# Altium schematic symbol library 3.3 - STC系列单片机.SchLib: 92 symbols (part 2 of 2)
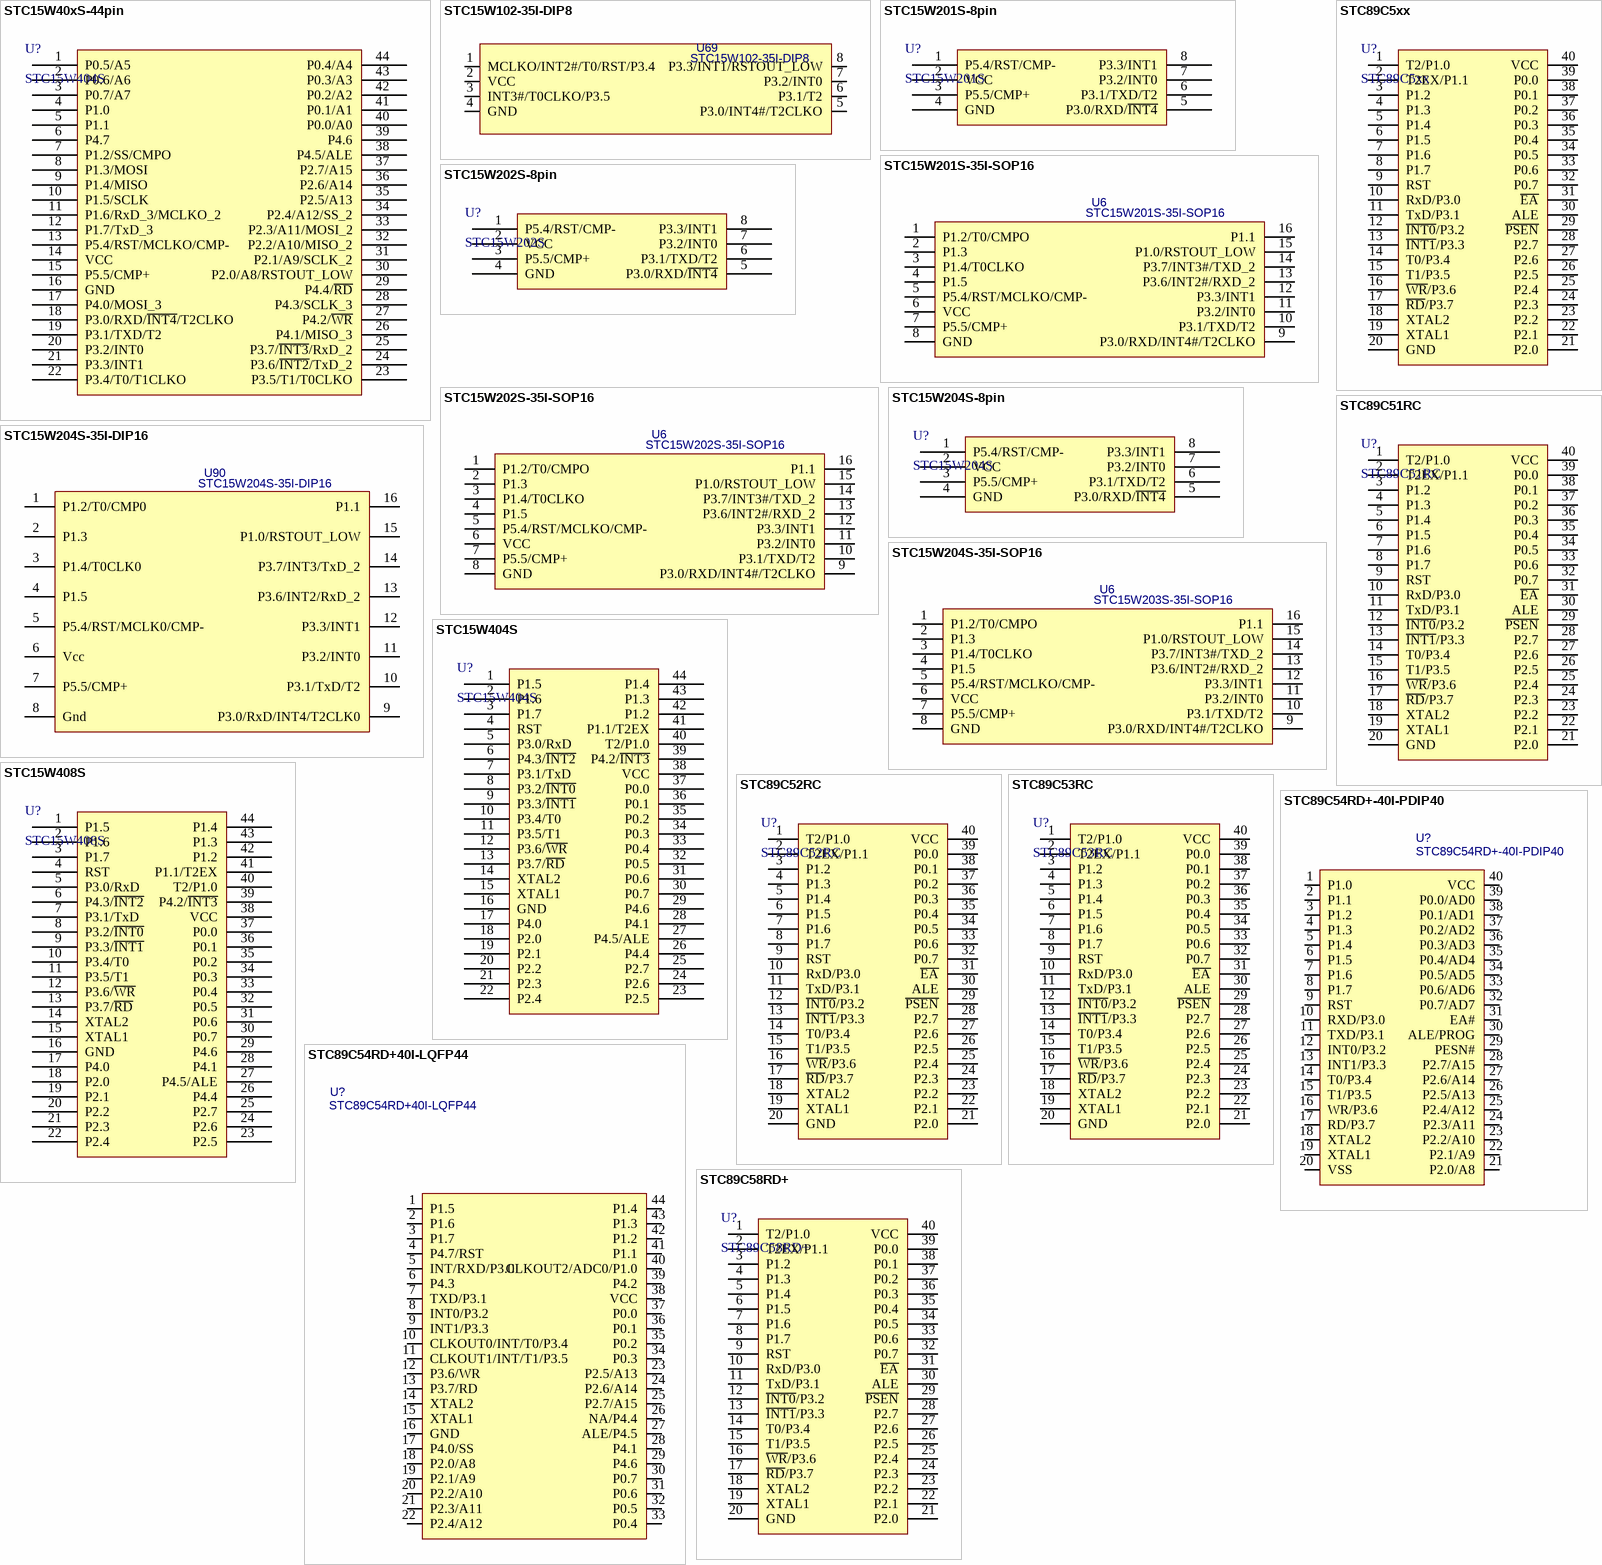
[diagram p7: symbols STC15W40xS-44pin to STC89C58RD+]

## STC89C52RC
designator U?
STC单片机; 其他店铺购入均为盗版封装库，无更新权益: 最新版本发布https://shop463601444.taobao.com; BOM名称: STC单片机
footprint DIP40-600 (52*15.2*4mm(长宽高))
pins: 1 T2/P1.0, 2 T2EX/P1.1, 3 P1.2, 4 P1.3, 5 P1.4, 6 P1.5, 7 P1.6, 8 P1.7, 9 RST, 10 RxD/P3.0, 11 TxD/P3.1, 12 ~{INT0}/P3.2, 13 ~{INT1}/P3.3, 14 T0/P3.4, 15 T1/P3.5, 16 ~{WR}/P3.6, 17 ~{RD}/P3.7, 18 XTAL2, 19 XTAL1, 20 GND, 21 P2.0, 22 P2.1, 23 P2.2, 24 P2.3, 25 P2.4, 26 P2.5, 27 P2.6, 28 P2.7, 29 ~{PSEN}, 30 ALE, 31 ~{EA}, 32 P0.7, 33 P0.6, 34 P0.5, 35 P0.4, 36 P0.3, 37 P0.2, 38 P0.1, 39 P0.0, 40 VCC

## STC89C53RC
designator U?
STC单片机; 其他店铺购入均为盗版封装库，无更新权益: 最新版本发布https://shop463601444.taobao.com; BOM名称: STC单片机
footprint DIP40-600 (52*15.2*4mm(长宽高))
pins: 1 T2/P1.0, 2 T2EX/P1.1, 3 P1.2, 4 P1.3, 5 P1.4, 6 P1.5, 7 P1.6, 8 P1.7, 9 RST, 10 RxD/P3.0, 11 TxD/P3.1, 12 ~{INT0}/P3.2, 13 ~{INT1}/P3.3, 14 T0/P3.4, 15 T1/P3.5, 16 ~{WR}/P3.6, 17 ~{RD}/P3.7, 18 XTAL2, 19 XTAL1, 20 GND, 21 P2.0, 22 P2.1, 23 P2.2, 24 P2.3, 25 P2.4, 26 P2.5, 27 P2.6, 28 P2.7, 29 ~{PSEN}, 30 ALE, 31 ~{EA}, 32 P0.7, 33 P0.6, 34 P0.5, 35 P0.4, 36 P0.3, 37 P0.2, 38 P0.1, 39 P0.0, 40 VCC

## STC89C54RD+40I-LQFP44
designator U?
STC单片机; 其他店铺购入均为盗版封装库，无更新权益: 最新版本发布https://shop463601444.taobao.com; BOM名称: STC单片机
footprint LQFP44_P80 (44脚，体宽10x10mm，脚距0.8mm)
pins: 1 P1.5, 2 P1.6, 3 P1.7, 4 P4.7/RST, 5 INT/RXD/P3.0, 6 P4.3, 7 TXD/P3.1, 8 INT0/P3.2, 9 INT1/P3.3, 10 CLKOUT0/INT/T0/P3.4, 11 CLKOUT1/INT/T1/P3.5, 12 P3.6/WR, 13 P3.7/RD, 14 XTAL2, 15 XTAL1, 16 GND, 17 P4.0/SS, 18 P2.0/A8, 19 P2.1/A9, 20 P2.2/A10, 21 P2.3/A11, 22 P2.4/A12, 23 P2.5/A13, 24 P2.6/A14, 25 P2.7/A15, 26 NA/P4.4, 27 ALE/P4.5, 28 P4.1, 29 P4.6, 30 P0.7, 31 P0.6, 32 P0.5, 33 P0.4, 34 P0.3, 35 P0.2, 36 P0.1, 37 P0.0, 38 VCC, 39 P4.2, 40 CLKOUT2/ADC0/P1.0, 41 P1.1, 42 P1.2, 43 P1.3, 44 P1.4

## STC89C54RD+-40I-PDIP40
designator U?
STC单片机; 其他店铺购入均为盗版封装库，无更新权益: 最新版本发布https://shop463601444.taobao.com; BOM名称: STC单片机
footprint DIP-40 (52*15.2*4mm(长宽高)                联系卖家 免费查找封装)
pins: 1 P1.0, 2 P1.1, 3 P1.2, 4 P1.3, 5 P1.4, 6 P1.5, 7 P1.6, 8 P1.7, 9 RST, 10 RXD/P3.0, 11 TXD/P3.1, 12 INT0/P3.2, 13 INT1/P3.3, 14 T0/P3.4, 15 T1/P3.5, 16 WR/P3.6, 17 RD/P3.7, 18 XTAL2, 19 XTAL1, 20 VSS, 21 P2.0/A8, 22 P2.1/A9, 23 P2.2/A10, 24 P2.3/A11, 25 P2.4/A12, 26 P2.5/A13, 27 P2.6/A14, 28 P2.7/A15, 29 PESN#, 30 ALE/PROG, 31 EA#, 32 P0.7/AD7, 33 P0.6/AD6, 34 P0.5/AD5, 35 P0.4/AD4, 36 P0.3/AD3, 37 P0.2/AD2, 38 P0.1/AD1, 39 P0.0/AD0, 40 VCC

## STC89C58RD+
designator U?
STC单片机; 其他店铺购入均为盗版封装库，无更新权益: 最新版本发布https://shop463601444.taobao.com; BOM名称: STC单片机
footprint DIP40-600 (52*15.2*4mm(长宽高))
pins: 1 T2/P1.0, 2 T2EX/P1.1, 3 P1.2, 4 P1.3, 5 P1.4, 6 P1.5, 7 P1.6, 8 P1.7, 9 RST, 10 RxD/P3.0, 11 TxD/P3.1, 12 ~{INT0}/P3.2, 13 ~{INT1}/P3.3, 14 T0/P3.4, 15 T1/P3.5, 16 ~{WR}/P3.6, 17 ~{RD}/P3.7, 18 XTAL2, 19 XTAL1, 20 GND, 21 P2.0, 22 P2.1, 23 P2.2, 24 P2.3, 25 P2.4, 26 P2.5, 27 P2.6, 28 P2.7, 29 ~{PSEN}, 30 ALE, 31 ~{EA}, 32 P0.7, 33 P0.6, 34 P0.5, 35 P0.4, 36 P0.3, 37 P0.2, 38 P0.1, 39 P0.0, 40 VCC

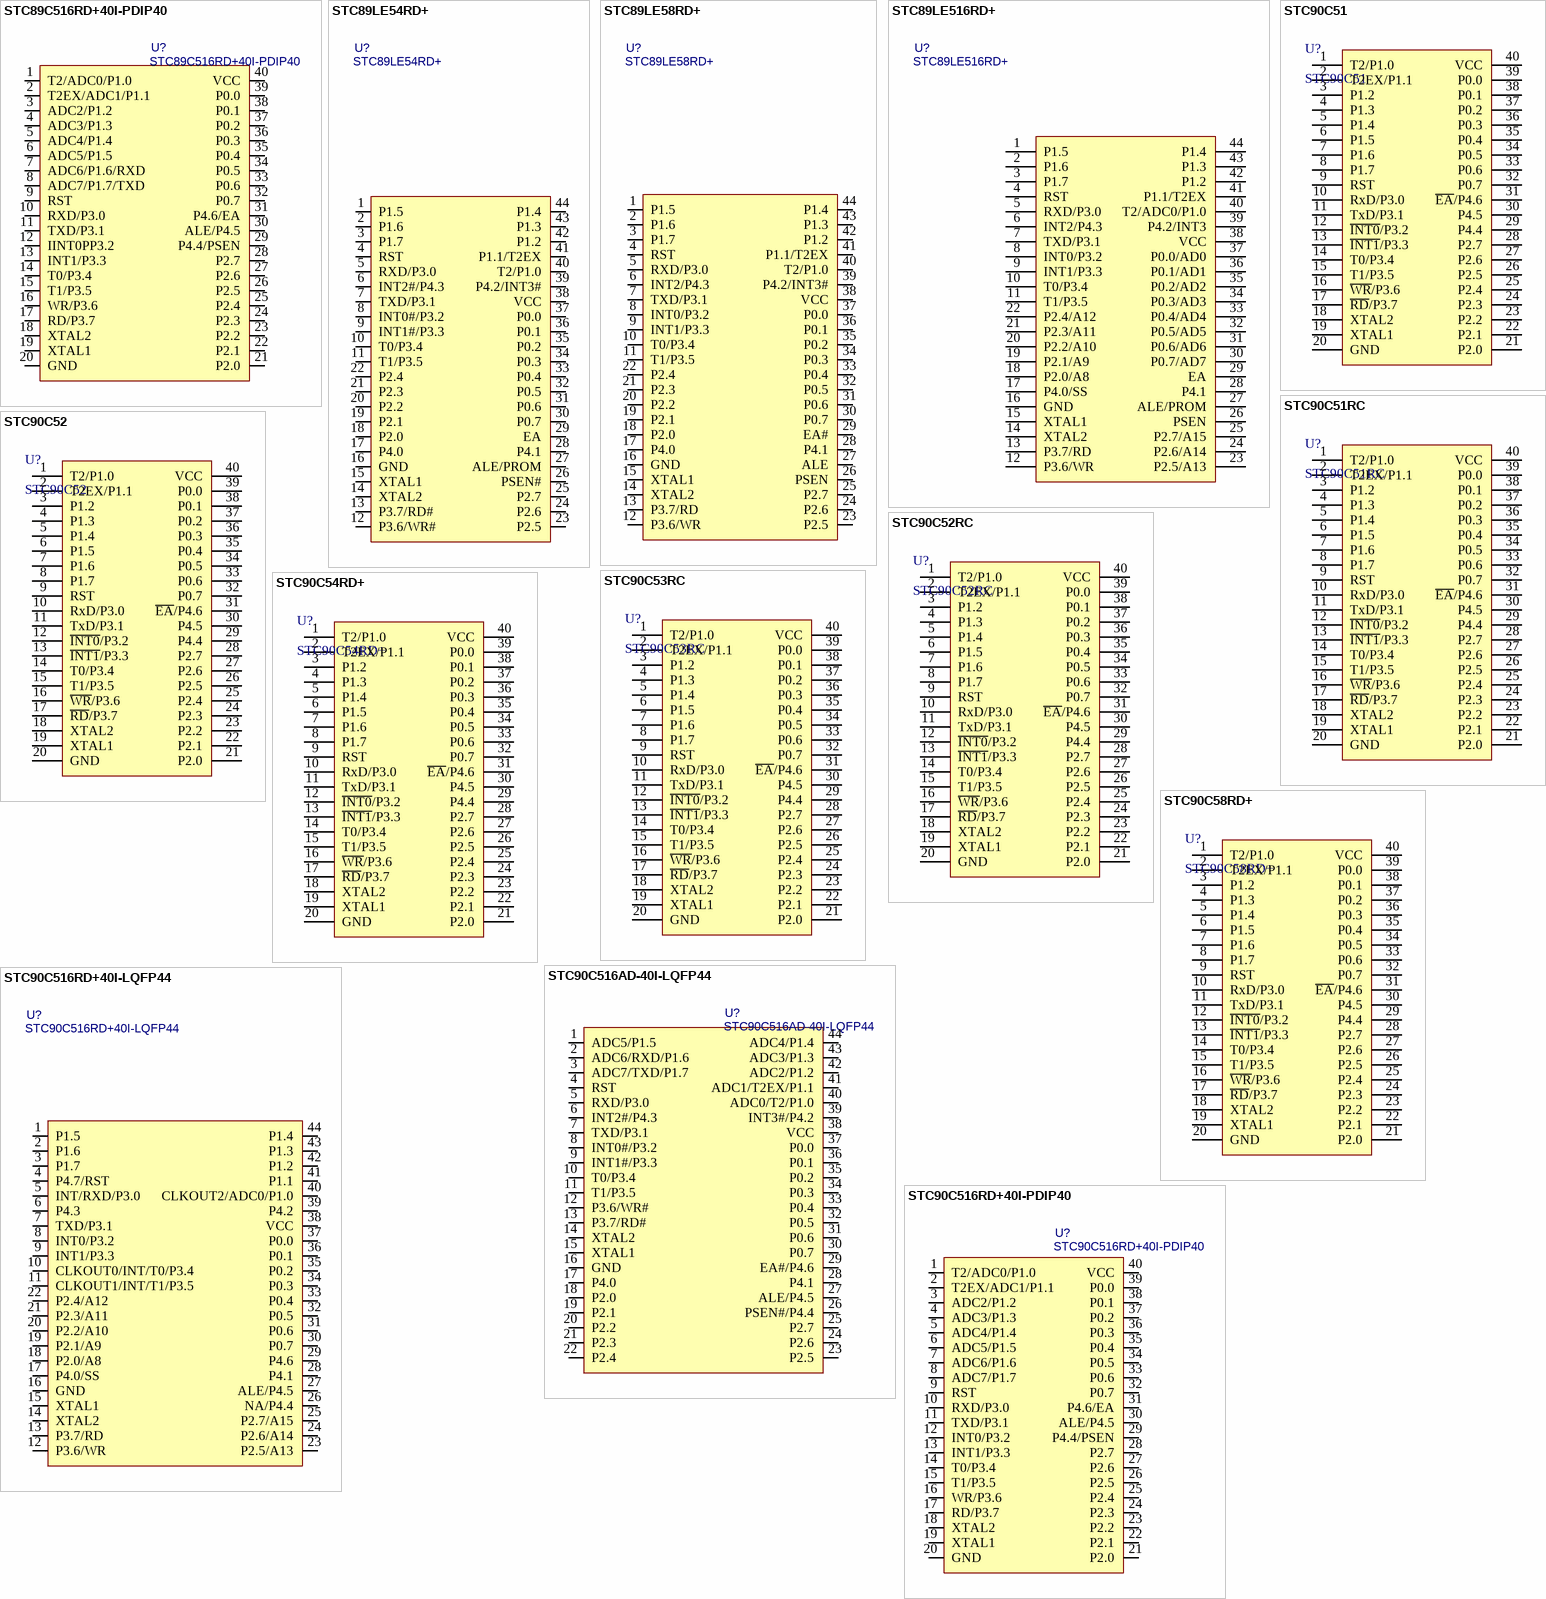
[diagram p6: symbols STC89C516RD+40I-PDIP40 to STC90C516RD+40I-PDIP40]

## STC89C516RD+40I-PDIP40
designator U?
STC单片机; 其他店铺购入均为盗版封装库，无更新权益: 最新版本发布https://shop463601444.taobao.com; BOM名称: STC单片机
footprint DIP-40 (52*15.2*4mm(长宽高)                联系卖家 免费查找封装)
pins: 1 T2/ADC0/P1.0, 2 T2EX/ADC1/P1.1, 3 ADC2/P1.2, 4 ADC3/P1.3, 5 ADC4/P1.4, 6 ADC5/P1.5, 7 ADC6/P1.6/RXD, 8 ADC7/P1.7/TXD, 9 RST, 10 RXD/P3.0, 11 TXD/P3.1, 12 IINT0PP3.2, 13 INT1/P3.3, 14 T0/P3.4, 15 T1/P3.5, 16 WR/P3.6, 17 RD/P3.7, 18 XTAL2, 19 XTAL1, 20 GND, 21 P2.0, 22 P2.1, 23 P2.2, 24 P2.3, 25 P2.4, 26 P2.5, 27 P2.6, 28 P2.7, 29 P4.4/PSEN, 30 ALE/P4.5, 31 P4.6/EA, 32 P0.7, 33 P0.6, 34 P0.5, 35 P0.4, 36 P0.3, 37 P0.2, 38 P0.1, 39 P0.0, 40 VCC

## STC89LE54RD+
designator U?
STC单片机; 其他店铺购入均为盗版封装库，无更新权益: 最新版本发布https://shop463601444.taobao.com; BOM名称: STC单片机
footprint LQFP44_P80 (44脚，体宽10x10mm，脚距0.8mm)
pins: 1 P1.5, 2 P1.6, 3 P1.7, 4 RST, 5 RXD/P3.0, 6 INT2#/P4.3, 7 TXD/P3.1, 8 INT0#/P3.2, 9 INT1#/P3.3, 10 T0/P3.4, 11 T1/P3.5, 12 P3.6/WR#, 13 P3.7/RD#, 14 XTAL2, 15 XTAL1, 16 GND, 17 P4.0, 18 P2.0, 19 P2.1, 20 P2.2, 21 P2.3, 22 P2.4, 23 P2.5, 24 P2.6, 25 P2.7, 26 PSEN#, 27 ALE/PROM, 28 P4.1, 29 EA, 30 P0.7, 31 P0.6, 32 P0.5, 33 P0.4, 34 P0.3, 35 P0.2, 36 P0.1, 37 P0.0, 38 VCC, 39 P4.2/INT3#, 40 T2/P1.0, 41 P1.1/T2EX, 42 P1.2, 43 P1.3, 44 P1.4

## STC89LE58RD+
designator U?
STC单片机; 其他店铺购入均为盗版封装库，无更新权益: 最新版本发布https://shop463601444.taobao.com; BOM名称: STC单片机
footprint LQFP44_P80 (44脚，体宽10x10mm，脚距0.8mm)
pins: 1 P1.5, 2 P1.6, 3 P1.7, 4 RST, 5 RXD/P3.0, 6 INT2/P4.3, 7 TXD/P3.1, 8 INT0/P3.2, 9 INT1/P3.3, 10 T0/P3.4, 11 T1/P3.5, 12 P3.6/WR, 13 P3.7/RD, 14 XTAL2, 15 XTAL1, 16 GND, 17 P4.0, 18 P2.0, 19 P2.1, 20 P2.2, 21 P2.3, 22 P2.4, 23 P2.5, 24 P2.6, 25 P2.7, 26 PSEN, 27 ALE, 28 P4.1, 29 EA#, 30 P0.7, 31 P0.6, 32 P0.5, 33 P0.4, 34 P0.3, 35 P0.2, 36 P0.1, 37 P0.0, 38 VCC, 39 P4.2/INT3#, 40 T2/P1.0, 41 P1.1/T2EX, 42 P1.2, 43 P1.3, 44 P1.4

## STC89LE516RD+
designator U?
STC单片机; 其他店铺购入均为盗版封装库，无更新权益: 最新版本发布https://shop463601444.taobao.com; BOM名称: STC单片机
footprint LQFP44_P80 (44脚，体宽10x10mm，脚距0.8mm)
pins: 1 P1.5, 2 P1.6, 3 P1.7, 4 RST, 5 RXD/P3.0, 6 INT2/P4.3, 7 TXD/P3.1, 8 INT0/P3.2, 9 INT1/P3.3, 10 T0/P3.4, 11 T1/P3.5, 12 P3.6/WR, 13 P3.7/RD, 14 XTAL2, 15 XTAL1, 16 GND, 17 P4.0/SS, 18 P2.0/A8, 19 P2.1/A9, 20 P2.2/A10, 21 P2.3/A11, 22 P2.4/A12, 23 P2.5/A13, 24 P2.6/A14, 25 P2.7/A15, 26 PSEN, 27 ALE/PROM, 28 P4.1, 29 EA, 30 P0.7/AD7, 31 P0.6/AD6, 32 P0.5/AD5, 33 P0.4/AD4, 34 P0.3/AD3, 35 P0.2/AD2, 36 P0.1/AD1, 37 P0.0/AD0, 38 VCC, 39 P4.2/INT3, 40 T2/ADC0/P1.0, 41 P1.1/T2EX, 42 P1.2, 43 P1.3, 44 P1.4

## STC90C51
designator U?
STC单片机; 其他店铺购入均为盗版封装库，无更新权益: 最新版本发布https://shop463601444.taobao.com; BOM名称: STC单片机
footprint DIP40-600 (52*15.2*4mm(长宽高))
pins: 1 T2/P1.0, 2 T2EX/P1.1, 3 P1.2, 4 P1.3, 5 P1.4, 6 P1.5, 7 P1.6, 8 P1.7, 9 RST, 10 RxD/P3.0, 11 TxD/P3.1, 12 ~{INT0}/P3.2, 13 ~{INT1}/P3.3, 14 T0/P3.4, 15 T1/P3.5, 16 ~{WR}/P3.6, 17 ~{RD}/P3.7, 18 XTAL2, 19 XTAL1, 20 GND, 21 P2.0, 22 P2.1, 23 P2.2, 24 P2.3, 25 P2.4, 26 P2.5, 27 P2.6, 28 P2.7, 29 P4.4, 30 P4.5, 31 ~{EA}/P4.6, 32 P0.7, 33 P0.6, 34 P0.5, 35 P0.4, 36 P0.3, 37 P0.2, 38 P0.1, 39 P0.0, 40 VCC

## STC90C51RC
designator U?
STC单片机; 其他店铺购入均为盗版封装库，无更新权益: 最新版本发布https://shop463601444.taobao.com; BOM名称: STC单片机
footprint DIP40-600 (52*15.2*4mm(长宽高))
pins: 1 T2/P1.0, 2 T2EX/P1.1, 3 P1.2, 4 P1.3, 5 P1.4, 6 P1.5, 7 P1.6, 8 P1.7, 9 RST, 10 RxD/P3.0, 11 TxD/P3.1, 12 ~{INT0}/P3.2, 13 ~{INT1}/P3.3, 14 T0/P3.4, 15 T1/P3.5, 16 ~{WR}/P3.6, 17 ~{RD}/P3.7, 18 XTAL2, 19 XTAL1, 20 GND, 21 P2.0, 22 P2.1, 23 P2.2, 24 P2.3, 25 P2.4, 26 P2.5, 27 P2.6, 28 P2.7, 29 P4.4, 30 P4.5, 31 ~{EA}/P4.6, 32 P0.7, 33 P0.6, 34 P0.5, 35 P0.4, 36 P0.3, 37 P0.2, 38 P0.1, 39 P0.0, 40 VCC

## STC90C52
designator U?
STC单片机; 其他店铺购入均为盗版封装库，无更新权益: 最新版本发布https://shop463601444.taobao.com; BOM名称: STC单片机
footprint DIP40-600 (52*15.2*4mm(长宽高))
pins: 1 T2/P1.0, 2 T2EX/P1.1, 3 P1.2, 4 P1.3, 5 P1.4, 6 P1.5, 7 P1.6, 8 P1.7, 9 RST, 10 RxD/P3.0, 11 TxD/P3.1, 12 ~{INT0}/P3.2, 13 ~{INT1}/P3.3, 14 T0/P3.4, 15 T1/P3.5, 16 ~{WR}/P3.6, 17 ~{RD}/P3.7, 18 XTAL2, 19 XTAL1, 20 GND, 21 P2.0, 22 P2.1, 23 P2.2, 24 P2.3, 25 P2.4, 26 P2.5, 27 P2.6, 28 P2.7, 29 P4.4, 30 P4.5, 31 ~{EA}/P4.6, 32 P0.7, 33 P0.6, 34 P0.5, 35 P0.4, 36 P0.3, 37 P0.2, 38 P0.1, 39 P0.0, 40 VCC

## STC90C52RC
designator U?
STC单片机; 其他店铺购入均为盗版封装库，无更新权益: 最新版本发布https://shop463601444.taobao.com; BOM名称: STC单片机
footprint DIP40-600 (52*15.2*4mm(长宽高))
pins: 1 T2/P1.0, 2 T2EX/P1.1, 3 P1.2, 4 P1.3, 5 P1.4, 6 P1.5, 7 P1.6, 8 P1.7, 9 RST, 10 RxD/P3.0, 11 TxD/P3.1, 12 ~{INT0}/P3.2, 13 ~{INT1}/P3.3, 14 T0/P3.4, 15 T1/P3.5, 16 ~{WR}/P3.6, 17 ~{RD}/P3.7, 18 XTAL2, 19 XTAL1, 20 GND, 21 P2.0, 22 P2.1, 23 P2.2, 24 P2.3, 25 P2.4, 26 P2.5, 27 P2.6, 28 P2.7, 29 P4.4, 30 P4.5, 31 ~{EA}/P4.6, 32 P0.7, 33 P0.6, 34 P0.5, 35 P0.4, 36 P0.3, 37 P0.2, 38 P0.1, 39 P0.0, 40 VCC

## STC90C53RC
designator U?
STC单片机; 其他店铺购入均为盗版封装库，无更新权益: 最新版本发布https://shop463601444.taobao.com; BOM名称: STC单片机
footprint DIP40-600 (52*15.2*4mm(长宽高))
pins: 1 T2/P1.0, 2 T2EX/P1.1, 3 P1.2, 4 P1.3, 5 P1.4, 6 P1.5, 7 P1.6, 8 P1.7, 9 RST, 10 RxD/P3.0, 11 TxD/P3.1, 12 ~{INT0}/P3.2, 13 ~{INT1}/P3.3, 14 T0/P3.4, 15 T1/P3.5, 16 ~{WR}/P3.6, 17 ~{RD}/P3.7, 18 XTAL2, 19 XTAL1, 20 GND, 21 P2.0, 22 P2.1, 23 P2.2, 24 P2.3, 25 P2.4, 26 P2.5, 27 P2.6, 28 P2.7, 29 P4.4, 30 P4.5, 31 ~{EA}/P4.6, 32 P0.7, 33 P0.6, 34 P0.5, 35 P0.4, 36 P0.3, 37 P0.2, 38 P0.1, 39 P0.0, 40 VCC

## STC90C54RD+
designator U?
STC单片机; 其他店铺购入均为盗版封装库，无更新权益: 最新版本发布https://shop463601444.taobao.com; BOM名称: STC单片机
footprint DIP40-600 (52*15.2*4mm(长宽高))
pins: 1 T2/P1.0, 2 T2EX/P1.1, 3 P1.2, 4 P1.3, 5 P1.4, 6 P1.5, 7 P1.6, 8 P1.7, 9 RST, 10 RxD/P3.0, 11 TxD/P3.1, 12 ~{INT0}/P3.2, 13 ~{INT1}/P3.3, 14 T0/P3.4, 15 T1/P3.5, 16 ~{WR}/P3.6, 17 ~{RD}/P3.7, 18 XTAL2, 19 XTAL1, 20 GND, 21 P2.0, 22 P2.1, 23 P2.2, 24 P2.3, 25 P2.4, 26 P2.5, 27 P2.6, 28 P2.7, 29 P4.4, 30 P4.5, 31 ~{EA}/P4.6, 32 P0.7, 33 P0.6, 34 P0.5, 35 P0.4, 36 P0.3, 37 P0.2, 38 P0.1, 39 P0.0, 40 VCC

## STC90C58RD+
designator U?
STC单片机; 其他店铺购入均为盗版封装库，无更新权益: 最新版本发布https://shop463601444.taobao.com; BOM名称: STC单片机
footprint DIP40-600 (52*15.2*4mm(长宽高))
pins: 1 T2/P1.0, 2 T2EX/P1.1, 3 P1.2, 4 P1.3, 5 P1.4, 6 P1.5, 7 P1.6, 8 P1.7, 9 RST, 10 RxD/P3.0, 11 TxD/P3.1, 12 ~{INT0}/P3.2, 13 ~{INT1}/P3.3, 14 T0/P3.4, 15 T1/P3.5, 16 ~{WR}/P3.6, 17 ~{RD}/P3.7, 18 XTAL2, 19 XTAL1, 20 GND, 21 P2.0, 22 P2.1, 23 P2.2, 24 P2.3, 25 P2.4, 26 P2.5, 27 P2.6, 28 P2.7, 29 P4.4, 30 P4.5, 31 ~{EA}/P4.6, 32 P0.7, 33 P0.6, 34 P0.5, 35 P0.4, 36 P0.3, 37 P0.2, 38 P0.1, 39 P0.0, 40 VCC

## STC90C516AD-40I-LQFP44
designator U?
STC单片机; 其他店铺购入均为盗版封装库，无更新权益: 最新版本发布https://shop463601444.taobao.com; BOM名称: STC单片机
footprint LQFP44_P80 (44脚，体宽10x10mm，脚距0.8mm)
pins: 1 ADC5/P1.5, 2 ADC6/RXD/P1.6, 3 ADC7/TXD/P1.7, 4 RST, 5 RXD/P3.0, 6 INT2#/P4.3, 7 TXD/P3.1, 8 INT0#/P3.2, 9 INT1#/P3.3, 10 T0/P3.4, 11 T1/P3.5, 12 P3.6/WR#, 13 P3.7/RD#, 14 XTAL2, 15 XTAL1, 16 GND, 17 P4.0, 18 P2.0, 19 P2.1, 20 P2.2, 21 P2.3, 22 P2.4, 23 P2.5, 24 P2.6, 25 P2.7, 26 PSEN#/P4.4, 27 ALE/P4.5, 28 P4.1, 29 EA#/P4.6, 30 P0.7, 31 P0.6, 32 P0.5, 33 P0.4, 34 P0.3, 35 P0.2, 36 P0.1, 37 P0.0, 38 VCC, 39 INT3#/P4.2, 40 ADC0/T2/P1.0, 41 ADC1/T2EX/P1.1, 42 ADC2/P1.2, 43 ADC3/P1.3, 44 ADC4/P1.4

## STC90C516RD+40I-LQFP44
designator U?
STC单片机; 其他店铺购入均为盗版封装库，无更新权益: 最新版本发布https://shop463601444.taobao.com; BOM名称: STC单片机
footprint LQFP44_P80 (44脚，体宽10x10mm，脚距0.8mm)
pins: 1 P1.5, 2 P1.6, 3 P1.7, 4 P4.7/RST, 5 INT/RXD/P3.0, 6 P4.3, 7 TXD/P3.1, 8 INT0/P3.2, 9 INT1/P3.3, 10 CLKOUT0/INT/T0/P3.4, 11 CLKOUT1/INT/T1/P3.5, 12 P3.6/WR, 13 P3.7/RD, 14 XTAL2, 15 XTAL1, 16 GND, 17 P4.0/SS, 18 P2.0/A8, 19 P2.1/A9, 20 P2.2/A10, 21 P2.3/A11, 22 P2.4/A12, 23 P2.5/A13, 24 P2.6/A14, 25 P2.7/A15, 26 NA/P4.4, 27 ALE/P4.5, 28 P4.1, 29 P4.6, 30 P0.7, 31 P0.6, 32 P0.5, 33 P0.4, 34 P0.3, 35 P0.2, 36 P0.1, 37 P0.0, 38 VCC, 39 P4.2, 40 CLKOUT2/ADC0/P1.0, 41 P1.1, 42 P1.2, 43 P1.3, 44 P1.4

## STC90C516RD+40I-PDIP40
designator U?
STC单片机; 其他店铺购入均为盗版封装库，无更新权益: 最新版本发布https://shop463601444.taobao.com; BOM名称: STC单片机
footprint DIP-40 (52*15.2*4mm(长宽高)                联系卖家 免费查找封装)
pins: 1 T2/ADC0/P1.0, 2 T2EX/ADC1/P1.1, 3 ADC2/P1.2, 4 ADC3/P1.3, 5 ADC4/P1.4, 6 ADC5/P1.5, 7 ADC6/P1.6, 8 ADC7/P1.7, 9 RST, 10 RXD/P3.0, 11 TXD/P3.1, 12 INT0/P3.2, 13 INT1/P3.3, 14 T0/P3.4, 15 T1/P3.5, 16 WR/P3.6, 17 RD/P3.7, 18 XTAL2, 19 XTAL1, 20 GND, 21 P2.0, 22 P2.1, 23 P2.2, 24 P2.3, 25 P2.4, 26 P2.5, 27 P2.6, 28 P2.7, 29 P4.4/PSEN, 30 ALE/P4.5, 31 P4.6/EA, 32 P0.7, 33 P0.6, 34 P0.5, 35 P0.4, 36 P0.3, 37 P0.2, 38 P0.1, 39 P0.0, 40 VCC